# Altium schematic symbol library biblioteka2.SchLib: 4 symbols
Pins are listed as number, name and electrical type; pins without a type are passive.

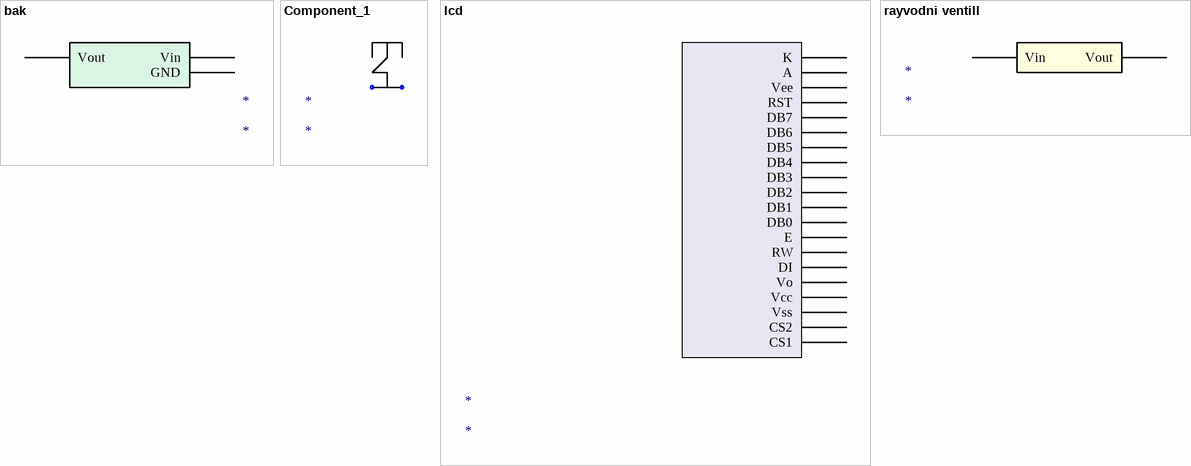
[diagram p0: symbols bak to rayvodni ventill]

## bak
designator *
pins: ?1 Vin, ?2 Vout, ?3 GND

## Component_1
designator *

## lcd
designator *
pins: ?1 K, ?2 A, ?3 Vee, ?4 RST, ?5 DB7, ?6 DB6, ?7 DB5, ?8 DB4, ?9 DB3, ?10 DB2, ?11 DB1, ?12 DB0, ?13 E, ?14 RW, ?15 DI, ?16 Vo, ?17 Vcc, ?18 Vss, ?19 CS2, ?20 CS1

## rayvodni ventill
designator *
pins: ?1 Vin, ?2 Vout